# Altium footprint library SingleHole.PcbLib: 1 footprints
Each footprint in its own frame and in the unit in brackets; x right, y up, seen from the top. Pads: shape width x height; smd on the part's side, far side on the other; paste and mask are expansions set on the pad; w line width, h text height; cw(c..) or ccw(c..) is an arc to the next point about the centre after c.
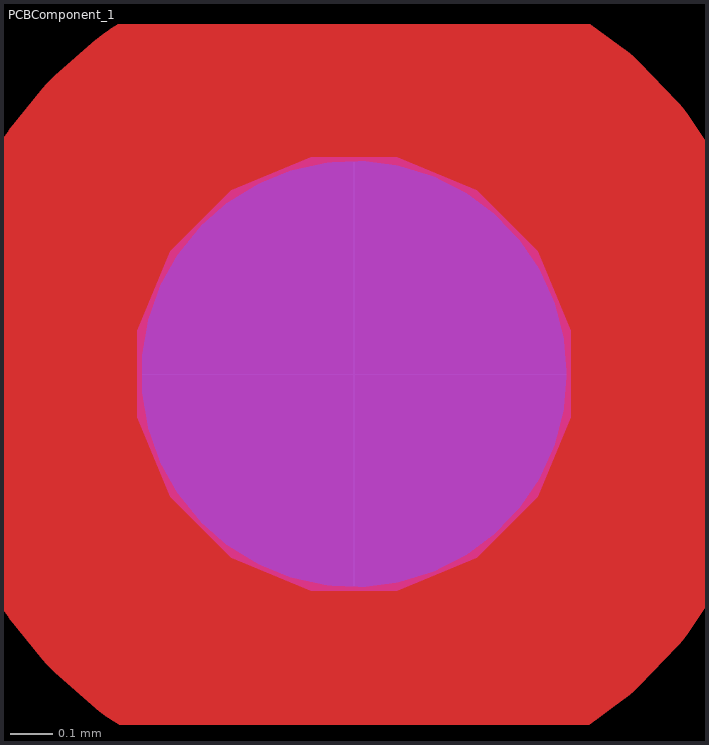
[diagram p0: the footprint, top view; thin cyan lines are the x and y axes]

## PCBComponent_1 [mm]
Top Layer:
  circle w0.492: c0,0 r0.746
Top Solder:
  circle w0.492: c0,0 r0.746
Keep-Out Layer:
  board cut-out: 0,-0.508 -0.101,-0.508 -0.288,-0.431 -0.431,-0.288 -0.508,-0.101 -0.508,0 -0.508,0.101 -0.431,0.288 -0.288,0.431 -0.101,0.508 0,0.508 0.101,0.508 0.288,0.431 0.431,0.288 0.508,0.101 0.508,0 0.508,-0.101 0.431,-0.288 0.288,-0.431 0.101,-0.508
Mechanical 1:
  circle w0.508: c0,0 r0.254